# EAGLE library part 620309124022 (library Wurth_Connectors_WR-WTB)
WR-WTB 2.00 mm SMT Male Vertical Shrouded Header KIND PROPERTIES: Pitch:2 mm Gender:Male MATERIAL PROPERTIES: Insulator Material :PA9T Insulator Flammability Rating:UL94 V-0 Color:Beige Contact Material:Copper Alloy Contact Plating:Tin Contact Type:Stamped GENERAL INFORMATION Operating Temperature:-25 up to +85 °C Compliance: RoHS Working Voltage:100 V (AC) Withstanding Voltage:800V (AC) Contact Resistance:20 mΩ RISO:1000 MΩ CERTIFICATION UL Approval:E323964 PACKAGING PROPERTIES Packaging:Tape and Reel with Cap <https://katalog.we-online.de/media/images/v2/o33354v209%20Family_WR-WTB_6203xx124022.jpg> Details see: https://katalog.we-online.de/en/em/WTB_2_00_SMT_MALE_VERTICAL_SHROUDED_HEADER_6203XX124022 Updated by Yingchun,Shan 2019-11-07 2019 (C) Würth Elektronik
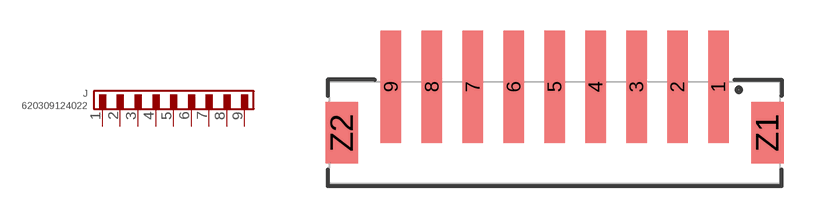
[diagram p95: symbol with the pads of 620309124022; footprint 620309124022]

Designator prefix J

## 620309124022 (CONTACT-RESISTANCE: 20mOhm; DATASHEET-URL: https://www.we-online.com/redexpert/spec/620309124022?ae; GENDER: Male; IR: 2A; L: 22mm; MOUNT: SMT; PACKAGING: Tape and Reel with Cap; PART-NUMBER: 620309124022; PCB-CABLE-PANEL: PCB; PINS: 9; PITCH: 2mm; TYPE: Vertical; VALUE: 620309124022; WORKING-VOLTAGE: 100V(AC))  [620309124022]
1  1  pas
2  2  pas
3  3  pas
4  4  pas
5  5  pas
6  6  pas
7  7  pas
8  8  pas
9  9  pas

## Footprint 620309124022 (pad centres in mm)
WR-WTB 2.00 mm SMT Male Vertical Shrouded Header,9 Pins
smd 1 x 5.5: 1 8,2.25; 2 6,2.25; 3 4,2.25; 4 2,2.25; 5 0,2.25; 6 -2,2.25; 7 -4,2.25; 8 -6,2.25; 9 -8,2.25
smd 1.6 x 3: Z1 10.4,0; Z2 -10.4,0